# EAGLE library part 1X07-HEADER (library fablab)
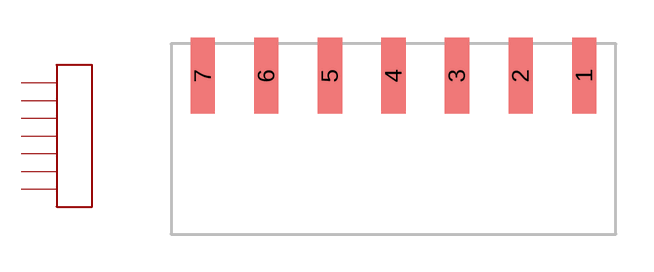
[diagram p11: symbol with the pads of 1X07-SMD; footprint 1X07-SMD]

Designator prefix -

## 1X07-HEADER  [1X07-SMD]
1  P$1
2  P$2
3  P$3
4  P$4
5  P$5
6  P$6
7  P$7

## Footprint 1X07-SMD (pad centres in mm)
smd 0.965 x 3.048: 1 7.62,3.81; 2 5.08,3.81; 3 2.54,3.81; 4 0,3.81; 5 -2.54,3.81; 6 -5.08,3.81; 7 -7.62,3.81